# EAGLE library part PIN_HEADER_8 (library 08_CONECTOR)
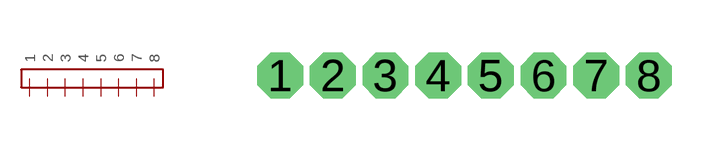
[diagram p7: symbol with the pads of PIN_HEADER_8; footprint PIN_HEADER_8]

Designator prefix -

## PIN_HEADER_8  [PIN_HEADER_8]
1  1
2  2
3  3
4  4
5  5
6  6
7  7
8  8

## Footprint PIN_HEADER_8 (pad centres in mm)
drill 0.8 octagon: 1 -4.5,0; 2 -3,0; 3 -1.5,0; 4 0,0; 5 1.5,0; 6 3,0; 7 4.5,0; 8 6,0